# Altium footprint library MDIP_6_SMD.PcbLib: 1 footprints
Each footprint in its own frame and in the unit in brackets; x right, y up, seen from the top. Pads: shape width x height; smd on the part's side, far side on the other; paste and mask are expansions set on the pad; w line width, h text height; cw(c..) or ccw(c..) is an arc to the next point about the centre after c.
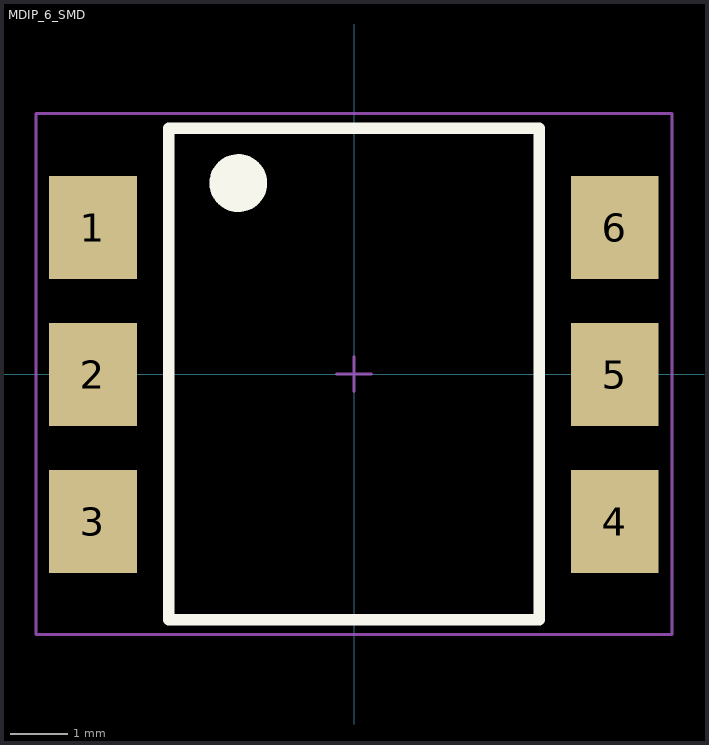
[diagram p0: the footprint, top view; thin cyan lines are the x and y axes]

## MDIP_6_SMD [mm]
pads (6):
  rect 1.52x1.78 smd: 1(-4.513,2.53) 2(-4.513,-0.01) 3(-4.513,-2.55) 4(4.507,-2.55) 5(4.507,-0.01) 6(4.507,2.53)
Top Overlay:
  circle w0.5: c-2,3.3 r0.25
  lines w0.2: -3.2,-4.25 -3.2,4.25 3.2,4.25 3.2,-4.25 -3.2,-4.25
Mechanical 15:
  lines w0.05: -0.3,0 0.3,0 ; 0,-0.3 0,0.3 ; -5.5,-4.5 5.5,-4.5 5.5,4.5 -5.5,4.5 -5.5,-4.5
3D body "MDIP-6-SMD.SLDPRT": height 4.84, standoff -0.05, extent -4.75,-4.25 4.75,4.25